# Altium footprint library 12401598E42A.PcbLib: 2 footprints
Each footprint in its own frame and in the unit in brackets; x right, y up, seen from the top. Pads: shape width x height; smd on the part's side, far side on the other; paste and mask are expansions set on the pad; w line width, h text height; cw(c..) or ccw(c..) is an arc to the next point about the centre after c.
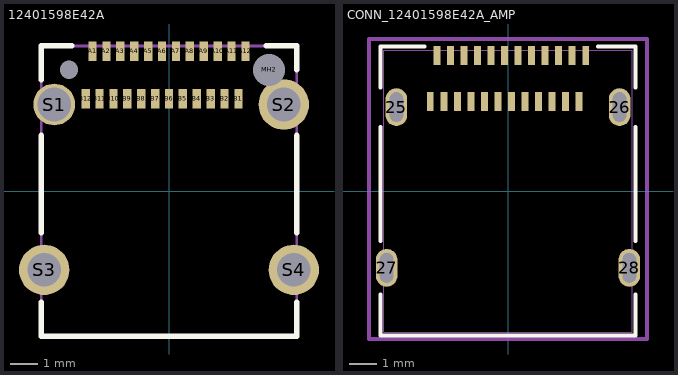
[diagram p0: the footprints below, top view; thin cyan lines are the x and y axes]

## 12401598E42A [mm]
pads (30):
  rect 0.3x0.7 smd: A1(-2.75,5.025) A2(-2.25,5.025) A3(-1.75,5.025) A4(-1.25,5.025) A5(-0.75,5.025) A6(-0.25,5.025) A7(0.25,5.025) A8(0.75,5.025) A9(1.25,5.025) A10(1.75,5.025) A11(2.25,5.025) A12(2.75,5.025) B1(2.5,3.325) B2(2,3.325) B3(1.5,3.325) B4(1,3.325) B5(0.5,3.325) B6(0,3.325) B7(-0.5,3.325) B8(-1,3.325) B9(-1.5,3.325) B10(-2,3.325) B11(-2.5,3.325) B12(-3,3.325)
  round 0.325 hole 0.65 unplated: MH1(-3.6,4.365)
  round 0.575 hole 1.15 unplated: MH2(3.6,4.365)
  round 1.5 hole 1.21: S1(-4.13,3.115)
  round 1.815 hole 1.21: S2(4.13,3.115) S3(-4.49,-2.835) S4(4.49,-2.835)
Top Overlay:
  lines w0.2: -4.6,-4 -4.6,-5.225 4.6,-5.225 4.6,-4 ; -4.6,-1.5 -4.6,2 ; -4.6,4 -4.6,5.225 -3.5,5.225 ; 3.5,5.225 4.6,5.225 4.6,4.365 ; 4.6,-1.5 4.6,2
Mechanical 13:
  lines w0.1: -4.6,-5.225 4.6,-5.225 4.6,5.225 -4.6,5.225 -4.6,-5.225
3D body "C12401598_3.stp": height 3.31, standoff -2.08, extent -4.6,-5.255 4.6,5.235

## CONN_12401598E42A_AMP [mil]
pads (28):
  oval 31.5x55.12 hole 19.68 slot 43.31 at 90 deg paste-55.12: 25(-162.6,122.43) 26(162.6,122.43) 27(-176.77,-111.82) 28(176.77,-111.82)
  rect 10x28 smd paste+0 mask+0: A1(-103.35,197.63) A2(-83.66,197.63) A3(-63.98,197.63) A4(-44.29,197.63) A5(-24.61,197.63) A6(-4.92,197.63) A7(14.76,197.63) A8(34.45,197.63) A9(54.13,197.63) A10(73.82,197.63) A11(93.5,197.63) A12(113.19,197.63) B1(103.35,130.7) B2(83.66,130.7) B3(63.98,130.7) B4(44.29,130.7) B5(24.61,130.7) B6(4.92,130.7) B7(-14.76,130.7) B8(-34.45,130.7) B9(-54.13,130.7) B10(-73.82,130.7) B11(-93.5,130.7) B12(-113.19,130.7)
Top Overlay:
  lines w6: -186,-150.92 -186,-210.5 186,-210.5 186,-150.92 ; -186,-72.72 -186,93.63 ; -186,151.23 -186,210.5 -121.45,210.5 ; 131.29,210.5 186,210.5 186,151.23 ; 186,-72.72 186,93.63
Mechanical 13:
  lines w1: -181,-205.5 -181,205.5 181,205.5 181,-205.5 -181,-205.5
Mechanical 15:
  lines w6: -202.77,-215.5 202.77,-215.5 202.77,221.63 -202.77,221.63 -202.77,-215.5
3D body "C12401598_3.stp": height 130.31, standoff -81.89, extent -181.1,-205.91 181.1,207.09